# Altium footprint library robo_module_connector.PcbLib: 1 footprints
Each footprint in its own frame and in the unit in brackets; x right, y up, seen from the top. Pads: shape width x height; smd on the part's side, far side on the other; paste and mask are expansions set on the pad; w line width, h text height; cw(c..) or ccw(c..) is an arc to the next point about the centre after c.
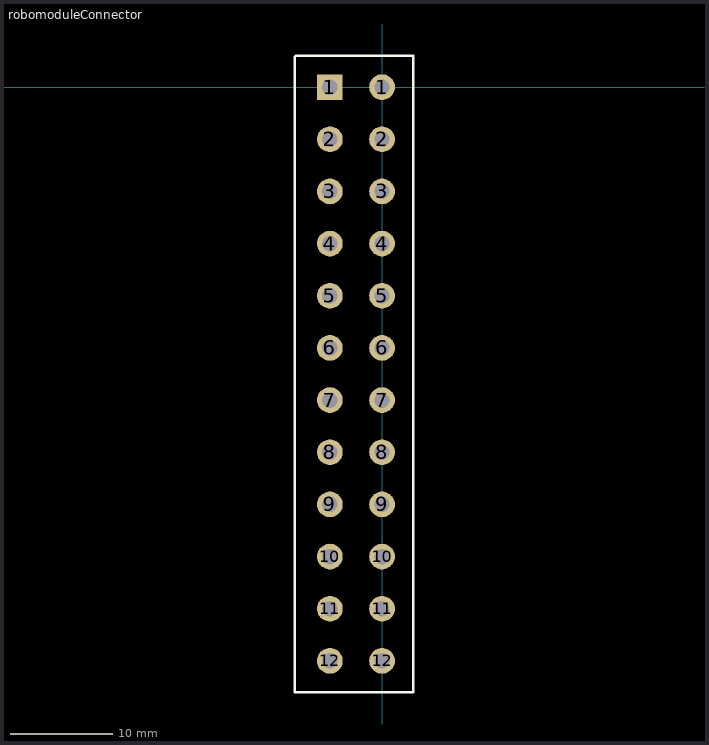
[diagram p0: the footprint, top view; thin cyan lines are the x and y axes]

## robomoduleConnector [mm]
pads (24):
  rect 2.5x2.5 hole 1.5: 1(-5.08,0)
  round 2.5 hole 1.5: 1(0,0) 2(-5.08,-5.08) 2(0,-5.08) 3(-5.08,-10.16) 3(0,-10.16) 4(-5.08,-15.24) 4(0,-15.24) 5(-5.08,-20.32) 5(0,-20.32) 6(-5.08,-25.4) 6(0,-25.4) 7(-5.08,-30.48) 7(0,-30.48) 8(-5.08,-35.56) 8(0,-35.56) 9(-5.08,-40.64) 9(0,-40.64) 10(-5.08,-45.72) 10(0,-45.72) 11(-5.08,-50.8) 11(0,-50.8) 12(-5.08,-55.88) 12(0,-55.88)
Top Overlay:
  lines w0.254: -8.509,-58.928 -8.509,2.921 -8.382,3.048 3.048,3.048 3.048,0.127 3.048,-58.928 -8.509,-58.928